# EAGLE library part TPS54260 (library dc-dc)
IC REG BUCK ADJ 2.5A 10MSOP Datasheet <http://www.ti.com/lit/ds/slvsa86c/slvsa86c.pdf>
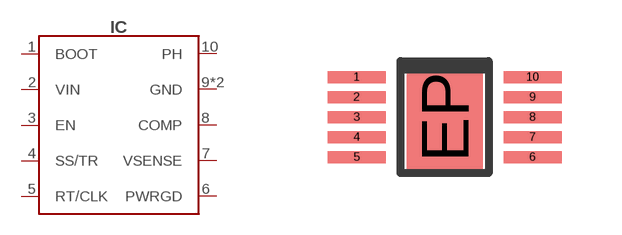
[diagram p25: symbol with the pads of MSOP10; footprint MSOP10]

Designator prefix IC

## TPS54260 (DIGIKEY#: 296-39415-2-ND; LCSC#: C51800; MANF: Texas Instruments; MANF#: TPS54260DGQR)  [MSOP10]
1  BOOT
2  VIN
3  EN
4  SS/TR
5  RT/CLK
6  PWRGD
7  VSENSE
8  COMP
9  GND
10  PH
EP  GND

## Footprint MSOP10 (pad centres in mm)
10-Lead Mini Small Outline Package [MSOP] (RM-10) Source: http://www.analog.com/UploadedFiles/Data_Sheets/35641221898805SSM2167_b.pdf COMPLIANT TO JEDEC STANDARDS MO-187BA
smd 1.45 x 0.3: 1 -2.2,1; 2 -2.2,0.5; 3 -2.2,0; 4 -2.2,-0.5; 5 -2.2,-1; 6 2.2,-1; 7 2.2,-0.5; 8 2.2,0; 9 2.2,0.5; 10 2.2,1
smd 1.9 x 2.6: EP 0,0